# Altium footprint library RGE0024C.PcbLib: 1 footprints
Each footprint in its own frame and in the unit in brackets; x right, y up, seen from the top. Pads: shape width x height; smd on the part's side, far side on the other; paste and mask are expansions set on the pad; w line width, h text height; cw(c..) or ccw(c..) is an arc to the next point about the centre after c.
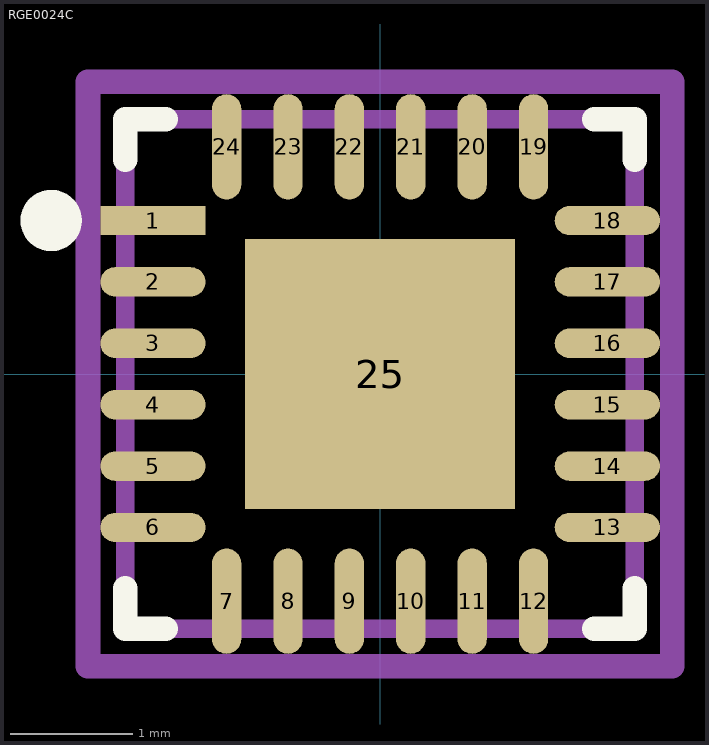
[diagram p0: the footprint, top view; thin cyan lines are the x and y axes]

## RGE0024C [mm]
pads (25):
  rect 0.857x0.239 smd paste+0 mask+0: 1(-1.851,1.25)
  oval 0.857x0.239 smd paste+0 mask+0: 2(-1.851,0.75) 3(-1.851,0.25) 4(-1.851,-0.25) 5(-1.851,-0.75) 6(-1.851,-1.25) 13(1.851,-1.25) 14(1.851,-0.75) 15(1.851,-0.25) 16(1.851,0.25) 17(1.851,0.75) 18(1.851,1.25)
  oval 0.239x0.857 smd paste+0 mask+0: 7(-1.25,-1.851) 8(-0.75,-1.851) 9(-0.25,-1.851) 10(0.25,-1.851) 11(0.75,-1.851) 12(1.25,-1.851) 19(1.25,1.851) 20(0.75,1.851) 21(0.25,1.851) 22(-0.25,1.851) 23(-0.75,1.851) 24(-1.25,1.851)
  rect 2.2x2.2 smd paste-1000 mask+0: 25(0,0)
Top Overlay:
  circle w0.25: c-2.679,1.25 r0.125
  lines w0.2: -2.075,-1.745 -2.075,-2.075 -1.745,-2.075 ; -2.075,1.745 -2.075,2.075 -1.745,2.075 ; 1.745,-2.075 2.075,-2.075 2.075,-1.745 ; 1.745,2.075 2.075,2.075 2.075,1.745
Top Paste:
  rectangle: -0.696,-0.696 0.696,0.696
Mechanical 10:
  lines w0.2: -2.379,-2.379 2.379,-2.379 2.379,2.379 -2.379,2.379 -2.379,-2.379
Mechanical 12:
  lines w0.15: -2.075,-2.075 2.075,-2.075 2.075,2.075 -2.075,2.075 -2.075,-2.075
Mechanical 15:
  lines w0.1: -0.5,0 0.5,0 ; 0,-0.5 0,0.5
  lines w0.2: -2.379,-2.379 2.379,-2.379 2.379,2.379 -2.379,2.379 -2.379,-2.379
3D body "IC_Texas_Instruments_TCA9548ARGER_eec.STEP": height 0.25, standoff 0, extent -2.379,-2.379 2.379,2.379